# Altium schematic symbol library Reader-Rev6.SCHLIB: 48 symbols
Pins are listed as number, name and electrical type; pins without a type are passive.

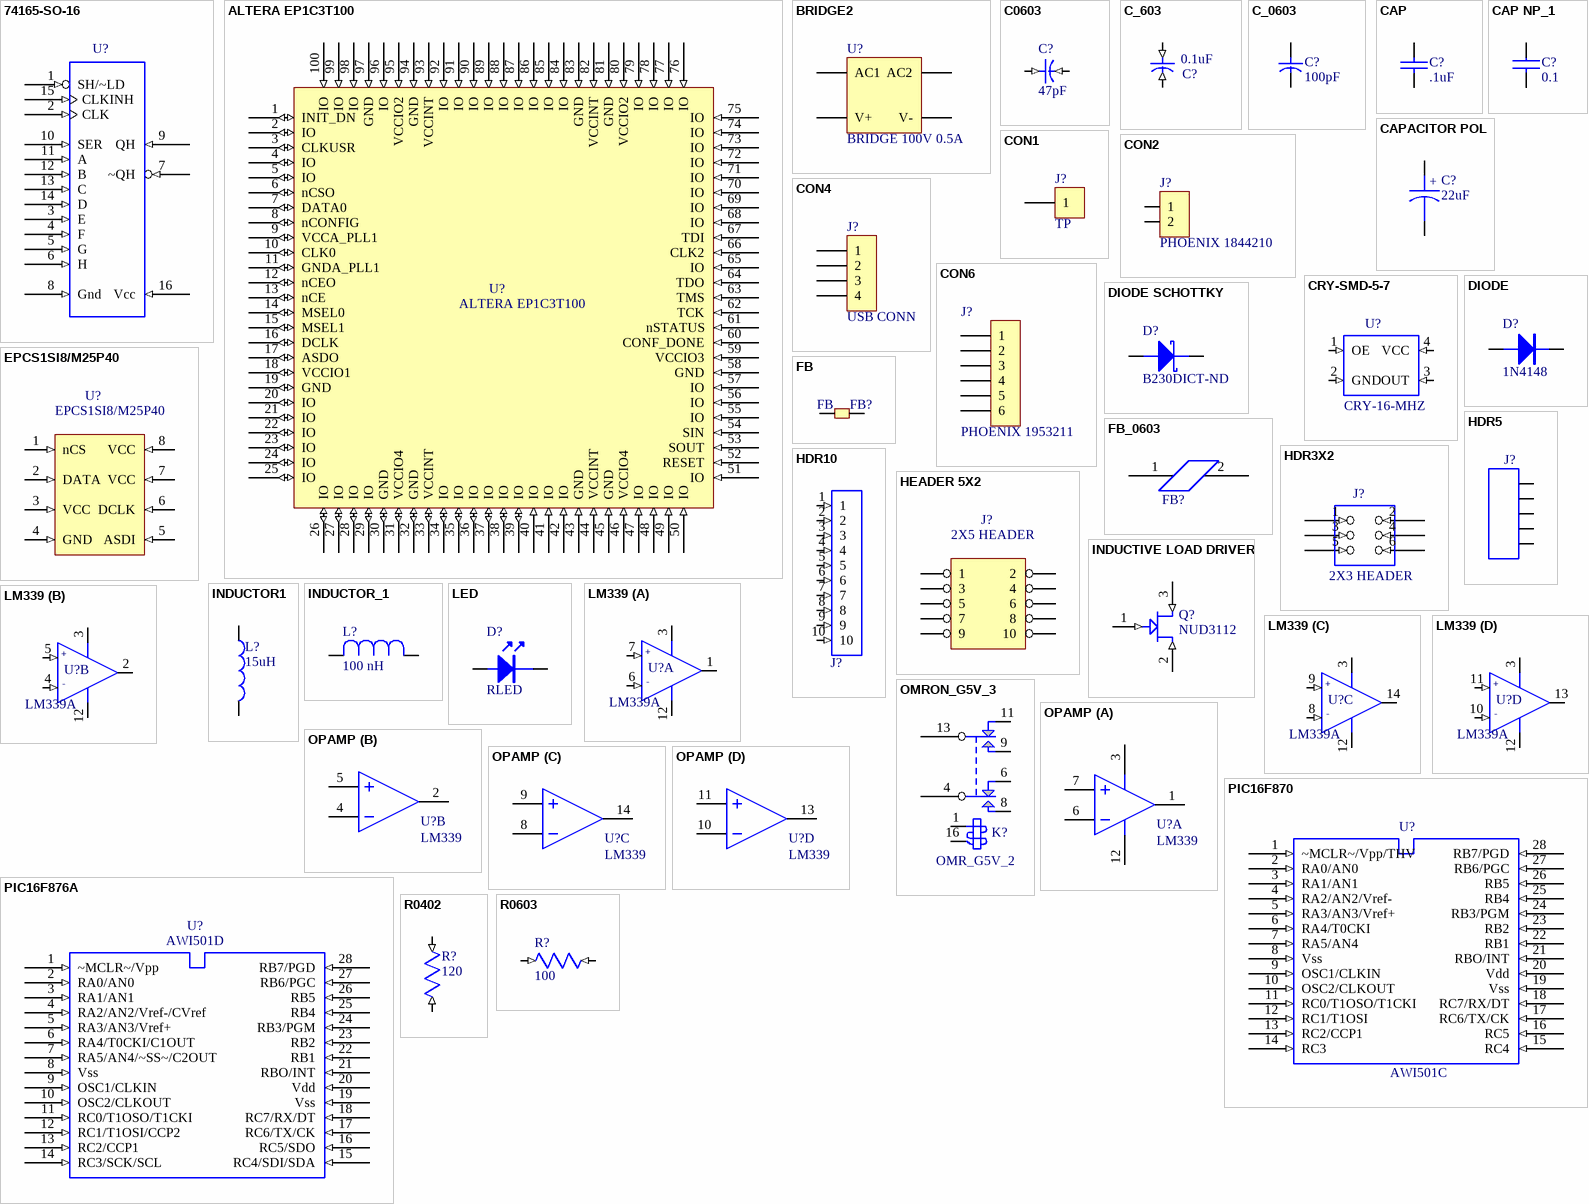
[diagram p0: symbols 74165-SO-16 to R0603]

## 74165-SO-16
designator U?, comment 74165  (value not drawn)
footprint SO16
pins: 1 SH/~LD (in), 2 CLK (in), 3 E (in), 4 F (in), 5 G (in), 6 H (in), 7 ~QH (in), 8 Gnd (in), 9 QH (in), 10 SER (in), 11 A (in), 12 B (in), 13 C (in), 14 D (in), 15 CLKINH (in), 16 Vcc (in)

## ALTERA EP1C3T100
designator U?
footprint TQFP100
pins: 1 INIT_DN (io), 2 IO (io), 3 CLKUSR (io), 4 IO (io), 5 IO (io), 6 nCSO (io), 7 DATA0 (io), 8 nCONFIG (io), 9 VCCA_PLL1 (io), 10 CLK0 (io), 11 GNDA_PLL1 (io), 12 nCEO (io), 13 nCE (io), 14 MSEL0 (io), 15 MSEL1 (io), 16 DCLK (io), 17 ASDO (io), 18 VCCIO1 (io), 19 GND (io), 20 IO (io), 21 IO (io), 22 IO (io), 23 IO (io), 24 IO (io), 25 IO (io), 26 IO (io), 27 IO (io), 28 IO (io), 29 IO (io), 30 GND (io), 31 VCCIO4 (io), 32 GND (io), 33 VCCINT (io), 34 IO (io), 35 IO (io), 36 IO (io), 37 IO (io), 38 IO (io), 39 IO (io), 40 IO (in), 41 IO (in), 42 IO (in), 43 GND (in), 44 VCCINT (in), 45 GND (in), 46 VCCIO4 (in), 47 IO (in), 48 IO (in), 49 IO (in), 50 IO (in), 51 IO (in), 52 RESET (in), 53 SOUT (in), 54 SIN (in), 55 IO (in), 56 IO (in), 57 IO (in), 58 GND (in), 59 VCCIO3 (in), 60 CONF_DONE (in), 61 nSTATUS (in), 62 TCK (in), 63 TMS (in), 64 TDO (in), 65 IO (in), 66 CLK2 (in), 67 TDI (in), 68 IO (in), 69 IO (in), 70 IO (in), 71 IO (in), 72 IO (in), 73 IO (in), 74 IO (in), 75 IO (in), 76 IO (in), 77 IO (in), 78 IO (in), 79 IO (in), 80 VCCIO2 (in), 81 GND (in), 82 VCCINT (in), 83 GND (in), 84 IO (in), 85 IO (in), 86 IO (in), 87 IO (in), 88 IO (in), 89 IO (in), 90 IO (in), 91 IO (in), 92 IO (in), 93 VCCINT (in), 94 GND (in), 95 VCCIO2 (in), 96 IO (in), 97 GND (in), 98 IO (in), 99 IO (in), 100 IO (in)

## BRIDGE2
designator U?, comment BRIDGE 100V 0.5A
Diode Bridge
footprint BRIDGE
pins: AC1, AC2, V+, V-

## C0603
designator C?, comment 47pF
Part Field 1: Part Number 0603N470J500NT; Part Field 2: Vendor BC Components; Part Field 3: Description Cap, Ceramic, 47pF, 50V, NP0, 0603, SMD
footprint C0603
footprint 0603
pins: 1 A (in), 2 B (in)

## C_603
designator C?, comment 0.1uF
Part Field 1: Part Number ECJ-1VF1H104Z; Part Field 2: Vendor Panasonic - ECG; Part Field 3: Description CAP .1UF 50V CERAMIC Y5V 0603
footprint 0603
pins: 1 A (in), 2 B (in)

## C_0603
designator C?, comment 100pF
Part Field 1: Part Number ECJ-1VC1H101J; Part Field 2: Vendor Panasonic - ECG; Part Field 3: Description CAP CERAMIC 100PF 50V 0603 SMD
footprint C-0603
footprint 0603
pins: 1 A, 2 B

## CAP
designator C?, comment .1uF
Capacitor
footprint 0603
pins: 1, 2

## CAP NP_1
designator C?, comment 0.1
Text Field1: 20; Text Field2: 10
footprint SM/C_0805
footprint 0805
footprint 0603
pins: 1, 2

## CAPACITOR POL
designator C?, comment 22uF
Capacitor
footprint CAP A CASE
pins: 1, 2
text: +

## CON1
designator J?, comment TP
Connector
footprint TEST POINT PAD 3
pins: 1

## CON2
designator J?, comment PHOENIX 1844210
Connector
footprint CONN PHOENIX 1803227-2
footprint CONN PHOENIX 1844210-2
pins: 1, 2

## CON4
designator J?, comment USB CONN
Connector
footprint USB JACK
pins: 1, 2, 3, 4

## CON6
designator J?, comment PHOENIX 1953211
Connector
footprint CONN PHOENIX 1953211-6
pins: 1, 2, 3, 4, 5, 6

## CRY-SMD-5-7
designator U?, comment CRY-16-MHZ
footprint CRY-SMD-5-7
pins: 1 OE (in), 2 GND (in), 3 OUT (in), 4 VCC (in)

## DIODE
designator D?, comment 1N4148
Diode
footprint SOD123
pins: A, K

## DIODE SCHOTTKY
designator D?, comment B230DICT-ND
Schottky Diode
footprint DIODE SMB
pins: A, K

## EPCS1SI8/M25P40
designator U?
footprint SO8
pins: 1 nCS (in), 2 DATA (in), 3 VCC (in), 4 GND (in), 5 ASDI (in), 6 DCLK (in), 7 VCC (in), 8 VCC (in)

## FB
designator FB?
Text Field1: 10; Text Field2: 20
footprint SM/R_1206
footprint 0603
pins: 1, 2

## FB_0603
designator FB?, comment FB  (value not drawn)
Part Field 1: Part Number EXC-ML16A270U; Part Field 2: Vendor Panasonic - ECG; Part Field 3: Description BEAD CORE 27 OHM 4A 0603 SMD
footprint L-603
footprint 0603
pins: 1 2, 2 1

## HDR3X2
designator J?, comment 2X3 HEADER
Part Field 1: Part Number PTC03DAAN
footprint HDR3X2
footprint 2X3 HEADER
pins: 1 (in), 2 (in), 3 (in), 4 (in), 5 (in), 6 (in)

## HDR5
designator J?  (value not drawn)
footprint HDR5
footprint 1X5 HEADER
pins: 1, 2, 3, 4, 5

## HDR10
designator J?, comment 1X10 HEADER  (value not drawn)
footprint HDR_10
footprint 1X10 HEADER
pins: 1 (in), 2 (in), 3 (in), 4 (in), 5 (in), 6 (in), 7 (in), 8 (in), 9 (in), 10 (in)

## HEADER 5X2
designator J?, comment 2X5 HEADER
footprint 2X5 HEADER
pins: 1, 2, 3, 4, 5, 6, 7, 8, 9, 10

## INDUCTIVE LOAD DRIVER
designator Q?, comment NUD3112
footprint SOT23
pins: 1 G (in), 2 S (in), 3 D (in)

## INDUCTOR1
designator L?, comment 15uH
footprint COIL COILTRONICS UP2B-150
pins: 1, 2

## INDUCTOR_1
designator L?, comment 100 nH
Part Field 1: Part Number ELJ-RER10JF3; Part Field 2: Vendor Panasonic - ECG; Part Field 3: Description INDUCTOR 100NH 5% FIXED SMD
footprint DS1608-IND
footprint 0603
pins: 1 B, 2 A

## LED
designator D?, comment RLED
footprint LED TH
pins: A, K

## LM339
designator U?, comment LM339A
Text Field1: 40; Text Field2: 40
footprint SO14
part A pins: 1 OUT (oc), 3 V+ (power), 6 - (in), 7 + (in), 12 V- (power)
part B pins: 2 OUT (oc), 3 V+ (power), 4 - (in), 5 + (in), 12 V- (power)
part C pins: 3 V+ (power), 8 - (in), 9 + (in), 12 V- (power), 14 OUT (oc)
part D pins: 3 V+ (power), 10 - (in), 11 + (in), 12 V- (power), 13 OUT (oc)

## OMRON_G5V_3
designator K?, comment OMR_G5V_2
Text Field1: 20; Text Field2: 100
footprint RELAY44
pins: 1 COIL1, 4 COMMON2, 6 NC2, 8 NO2, 9 NO1, 11 NC1, 13 COMMON1, 16 COIL2

## OPAMP
designator U?, comment LM339
Operational Amplifier
footprint SO14
part A pins: 1, 3, 6, 7, 12
part B pins: 2, 4, 5
part C pins: 8, 9, 14
part D pins: 10, 11, 13

## PIC16F870
designator U?, comment AWI501C
Part Field 1: Part Number PIC16F870-E/SO; Part Field 2: Vendor Microchip Technology; Part Field 3: Description IC MCU CMOS 20MHZ 2K FLSH 28SOIC
footprint PIC16F870
pins: 1 ~MCLR~/Vpp/THV (in), 2 RA0/AN0 (in), 3 RA1/AN1 (in), 4 RA2/AN2/Vref- (in), 5 RA3/AN3/Vref+ (in), 6 RA4/T0CKI (in), 7 RA5/AN4 (in), 8 Vss (in), 9 OSC1/CLKIN (in), 10 OSC2/CLKOUT (in), 11 RC0/T1OSO/T1CKI (in), 12 RC1/T1OSI (in), 13 RC2/CCP1 (in), 14 RC3 (in), 15 RC4 (in), 16 RC5 (in), 17 RC6/TX/CK (in), 18 RC7/RX/DT (in), 19 Vss (in), 20 Vdd (in), 21 RBO/INT (in), 22 RB1 (in), 23 RB2 (in), 24 RB3/PGM (in), 25 RB4 (in), 26 RB5 (in), 27 RB6/PGC (in), 28 RB7/PGD (in)

## PIC16F876A
designator U?, comment AWI501D
Part Field 1: Part Number PIC16F876A-E/SO; Part Field 2: Vendor Microchip Technology; Part Field 3: Description IC MCU FLASH 8KX14 W/AD 28-SOIC
footprint SSOP-28
pins: 1 ~MCLR~/Vpp (in), 2 RA0/AN0 (in), 3 RA1/AN1 (in), 4 RA2/AN2/Vref-/CVref (in), 5 RA3/AN3/Vref+ (in), 6 RA4/T0CKI/C1OUT (in), 7 RA5/AN4/~SS~/C2OUT (in), 8 Vss (in), 9 OSC1/CLKIN (in), 10 OSC2/CLKOUT (in), 11 RC0/T1OSO/T1CKI (in), 12 RC1/T1OSI/CCP2 (in), 13 RC2/CCP1 (in), 14 RC3/SCK/SCL (in), 15 RC4/SDI/SDA (in), 16 RC5/SDO (in), 17 RC6/TX/CK (in), 18 RC7/RX/DT (in), 19 Vss (in), 20 Vdd (in), 21 RBO/INT (in), 22 RB1 (in), 23 RB2 (in), 24 RB3/PGM (in), 25 RB4 (in), 26 RB5 (in), 27 RB6/PGC (in), 28 RB7/PGD (in)

## R0402
designator R?, comment 120
Part Field 1: Part Number ERJ-3GEYJ121V; Part Field 2: Vendor Panasonic - ECG; Part Field 3: Description RES 120 OHM 1/10W 5% 0603 SMD
footprint 0402
footprint 0603
pins: 1 A (in), 2 B (in)

## R0603
designator R?, comment 100
Part Field 1: Part Number 9C06031A1000JLHFT; Part Field 2: Vendor Yageo America; Part Field 3: Description RES, 100 OHM, 1/10W, 5%, 0603, SMD
footprint R0603
footprint 0603
pins: 1 A (in), 2 B (in)

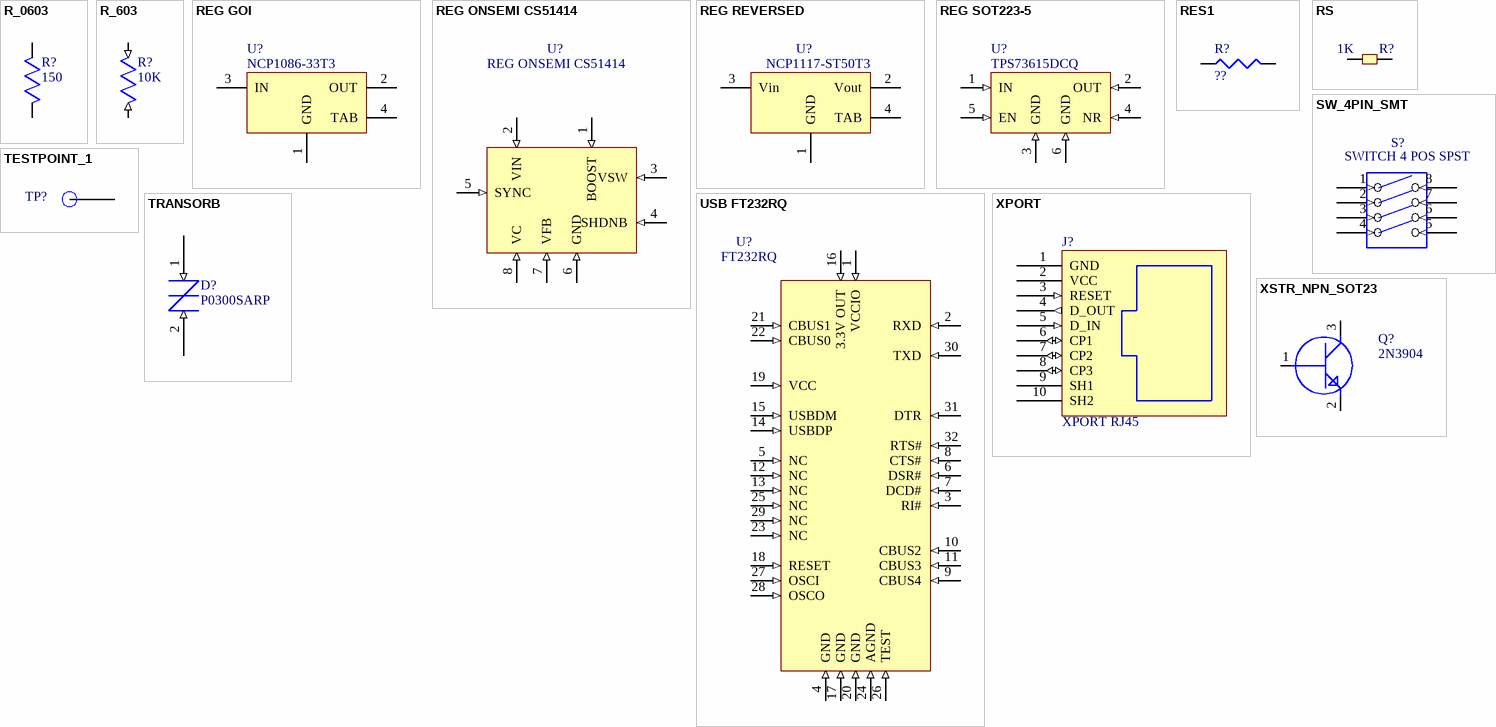
[diagram p1: symbols R_0603 to XSTR_NPN_SOT23]

## R_0603
designator R?, comment 150
Part Field 1: Part Number 9C06031A1500JLHFT; Part Field 2: Vendor Yageo America; Part Field 3: Description RES 150 OHM 1/16W 5% 0603 SMD
footprint R-0603
footprint 0603
pins: 1 A, 2 B

## R_603
designator R?, comment 10K
Part Field 1: Part Number ERA-V15J103V; Part Field 2: Vendor Panasonic - ECG; Part Field 3: Description RES 10K OHM 1/16W 1500PPM 5%0603
footprint R-603
footprint 0603
pins: 1 A (in), 2 B (in)

## REG GOI
designator U?, comment NCP1086-33T3
footprint SOT223 REG GOI
footprint SOT223 REG
pins: 1 GND (power), 2 OUT (power), 3 IN (power), 4 TAB (power)

## REG ONSEMI CS51414
designator U?
footprint SO8
pins: 1 BOOST (in), 2 VIN (in), 3 VSW (in), 4 SHDNB (in), 5 SYNC (in), 6 GND (in), 7 VFB (in), 8 VC (in)

## REG REVERSED
designator U?, comment NCP1117-ST50T3
footprint SOT223 REG
pins: 1 GND, 2 Vout, 3 Vin, 4 TAB

## REG SOT223-5
designator U?, comment TPS73615DCQ
footprint SOT223-5
pins: 1 IN (in), 2 OUT (in), 3 GND (in), 4 NR (in), 5 EN (in), 6 GND (in)

## RES1
designator R?, comment ??
footprint 0603
pins: 1, 2

## RS
designator R?, comment 1K
Text Field1: 10; Text Field2: 20
footprint SM/R_0805
footprint 0805
footprint 0603
pins: 1, 2

## SW_4PIN_SMT
designator S?, comment SWITCH 4 POS SPST
footprint SW_4PIN_SMT
footprint SWITCH 4 POS SPST
pins: 1 (in), 2 (in), 3 (in), 4 (in), 5 (in), 6 (in), 7 (in), 8 (in)

## TESTPOINT_1
designator TP?, comment TP  (value not drawn)
footprint TESTPOINT-1
footprint TEST POINT PAD 3
pins: 1 TP

## TRANSORB
designator D?, comment P0300SARP
footprint TRANSORB_1
pins: 1 (in), 2 (in)

## USB FT232RQ
designator U?, comment FT232RQ
footprint QFN32
pins: 1 VCCIO (in), 2 RXD (in), 3 RI# (in), 4 GND (in), 5 NC (in), 6 DSR# (in), 7 DCD# (in), 8 CTS# (in), 9 CBUS4 (in), 10 CBUS2 (in), 11 CBUS3 (in), 12 NC (in), 13 NC (in), 14 USBDP (in), 15 USBDM (in), 16 3.3V OUT (in), 17 GND (in), 18 RESET (in), 19 VCC (in), 20 GND (in), 21 CBUS1 (in), 22 CBUS0 (in), 23 NC (in), 24 AGND (in), 25 NC (in), 26 TEST (in), 27 OSCI (in), 28 OSCO (in), 29 NC (in), 30 TXD (in), 31 DTR (in), 32 RTS# (in)

## XPORT
designator J?, comment XPORT RJ45
footprint XPORT
footprint CONN XPORT
pins: 1 GND (power), 2 VCC (power), 3 RESET (in), 4 D_OUT (out), 5 D_IN (in), 6 CP1 (io), 7 CP2 (io), 8 CP3 (io), 9 SH1, 10 SH2

## XSTR_NPN_SOT23
designator Q?, comment 2N3904
Part Field 1: Part Number FMMT3904TA; Part Field 2: Vendor Zetex Inc.; Part Field 3: Description TRANS GP NPN 40V 200MA SOT-23
footprint SOT-23
footprint SOT23 TRANS
pins: 1, 2, 3